# Altium schematic symbol library dzsx.SCHLIB: 1 symbol
Pins are listed as number, name and electrical type; pins without a type are passive.

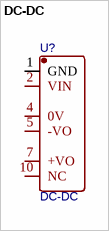
[diagram p0: symbol DC-DC]

## DC-DC
designator U?
BOM_Manufacturer: MORNSUN; BOM_Manufacturer Part: A0515XT-1WR2; BOM_Supplier: LCSC; BOM_Supplier Part: C58972; spicePre: U; spiceSymbolName: A0515XT-1WR2
footprint DC-DC
pins: 1 GND, 2 VIN, 4 0V, 5 -VO, 7 +VO, 10 NC